# Altium schematic symbol library RF.Multipliers.SchLib: 2 symbols
Pins are listed as number, name and electrical type; pins without a type are passive.

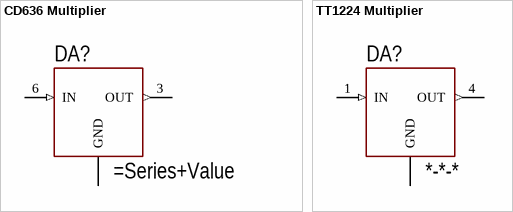
[diagram p0: symbols CD636 Multiplier to TT1224 Multiplier]

## CD636 Multiplier
designator DA?
Frequency Multiplier, CD636 Package
pins: 1 GND hidden to GND, 2 GND, 3 OUT (out), 4 GND hidden to GND, 5 GND hidden to GND, 6 IN (in)

## TT1224 Multiplier
designator DA?, comment *-*-*
Frequency Multiplier, TT1224 Package; Series: *; Multiplier: *; Value: *
footprint TT1224 (Mini-Circuits TT1224 Package, 6.35x7.87mm, 6-Leads)
pins: 1 IN (in), 2 GND, 3 GND hidden to GND, 4 OUT (out), 5 GND hidden to GND, 6 GND hidden to GND